# Altium schematic symbol library JY02_2019.SchLib: 11 symbols
Pins are listed as number, name and electrical type; pins without a type are passive.

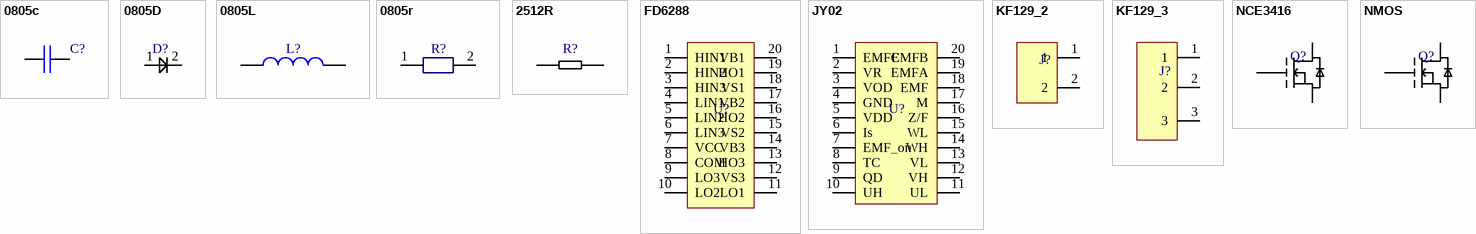
[diagram p0: symbols 0805c to NMOS]

## 0805c
designator C?
footprint 0805C
pins: 1, 2

## 0805D
designator D?
footprint 0805D
pins: 1 3, 2

## 0805L
designator L?  (value not drawn)
footprint 0805L
pins: 1, 2

## 0805r
designator R?
footprint 0805R
pins: 1, 2

## 2512R
designator R?
footprint 2512R
pins: 1, 2

## FD6288
designator U?
footprint TSSOP20-OR65-4R40
pins: 1 HIN1, 2 HIN2, 3 HIN3, 4 LIN1, 5 LIN2, 6 LIN3, 7 VCC, 8 COM, 9 LO3, 10 LO2, 11 LO1, 12 VS3, 13 HO3, 14 VB3, 15 VS2, 16 HO2, 17 VB2, 18 VS1, 19 HO1, 20 VB1

## JY02
designator U?
footprint SSOP20-25-150-1
pins: 1 EMFC, 2 VR, 3 VOD, 4 GND, 5 VDD, 6 Is, 7 EMF_on, 8 TC, 9 QD, 10 UH, 11 UL, 12 VH, 13 VL, 14 WH, 15 WL, 16 Z/F, 17 M, 18 EMF, 19 EMFA, 20 EMFB

## KF129_2
designator J?
footprint KF127_2
pins: 1, 2

## KF129_3
designator J?
footprint KF127_3
pins: 1, 2, 3

## NCE3416
designator Q?
footprint SOT23-3
pins: 1 G, 2 D, 3 D

## NMOS
designator Q?
footprint TO263-2
pins: 1 G, 2 D, 3 D